# Altium schematic symbol library PMIC-ETA3410D2I-T(DFN8-2X2).SchLib: 1 symbol
Pins are listed as number, name and electrical type; pins without a type are passive.

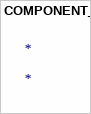
[diagram p0: symbol COMPONENT_1]

## COMPONENT_1
designator *